# Altium schematic symbol library 3362P-1-503RLF.SchLib: 1 symbol
Pins are listed as number, name and electrical type; pins without a type are passive.

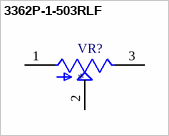
[diagram p0: symbol 3362P-1-503RLF]

## 3362P-1-503RLF
designator VR?
50 kOhms 0.5W, 1/2W PC Pins Through Hole Trimmer Potentiometer Cermet 1 Turn Top Adjustment; MF: Bourns; MP: 3362P-1-503RLF; Package: 3362P-1 Bourns Inc.; Purchase-URL: https://pricing.snapeda.com/search/part/3362P-1-503RLF/?ref=eda; Value: *; Digi-Key_Part_Number: 118-3362P-1-503RLFCT-ND; SnapEDA_Link: https://www.snapeda.com/parts/3362P-1-503RLF/Bourns/view-part/1444210/?ref=snap; Check_prices: https://www.snapeda.com/parts/3362P-1-503RLF/Bourns/view-part/1444210/?ref=eda
footprint TRIM_3362P-1-503RLF
pins: 1 CCW, 2 WIPER, 3 CW